# EAGLE library part MPL115A2 (library untitled)
Miniature SPI Digital Barometer
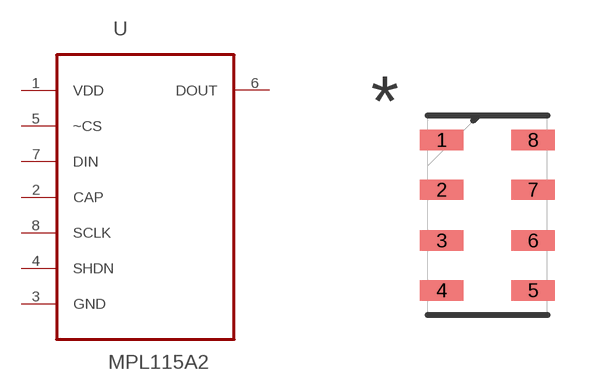
[diagram p0: symbol with the pads of LGA8R125P0X4_500X300X120; footprint LGA8R125P0X4_500X300X120]

Designator prefix U

## MPL115A2 (MPN: MPL115A2; OC_FARNELL: 2102577; OC_NEWARK: 69R5779; PACKAGESTYLE: LGA-8; SUPPLIER: Freescale)  [LGA8R125P0X4_500X300X120]
1  VDD  pwr
2  CAP  in
3  GND  pas
4  SHDN  in
5  ~CS  in
6  DOUT  out
7  DIN  in
8  SCLK  in

## Footprint LGA8R125P0X4_500X300X120 (pad centres in mm)
smd 1.092 x 0.508: 1 -1.143,1.88; 2 -1.143,0.635; 3 -1.143,-0.635; 4 -1.143,-1.88; 5 1.143,-1.88; 6 1.143,-0.635; 7 1.143,0.635; 8 1.143,1.88